# EAGLE library part 610*20243021 (library power_distribution)
20-Pin Bottom Entry Connector from Würth Elektronik
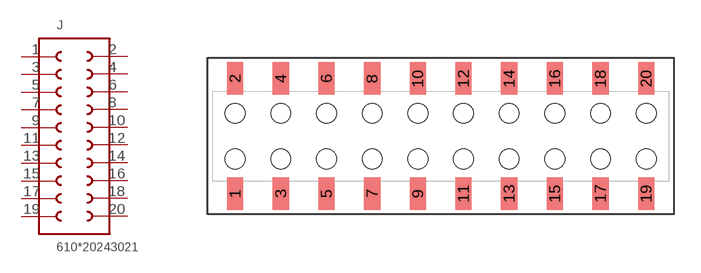
[diagram p3: symbol with the pads of 610X20243021; footprint 610X20243021]

Designator prefix J

## 61020243021, 610020243021 (MF: Würth Elektronik; MPN: 610020243021), 610320243021 (MF: Würth Elektronik; MPN: 610320243021)  [610X20243021]
1  20  pas
2  1  pas
3  19  pas
4  2  pas
5  18  pas
6  3  pas
7  17  pas
8  4  pas
9  16  pas
10  5  pas
11  15  pas
12  6  pas
13  14  pas
14  7  pas
15  13  pas
16  8  pas
17  12  pas
18  9  pas
19  11  pas
20  10  pas

## Footprint 610X20243021 (pad centres in mm)
WR-PHD 2.54mm SMT Dual Socket Header Bottom Entry, 20 Pins
smd 0.9 x 1.8: 1 -11.43,-3.2; 2 -11.43,3.2; 3 -8.89,-3.2; 4 -8.89,3.2; 5 -6.35,-3.2; 6 -6.35,3.2; 7 -3.81,-3.2; 8 -3.81,3.2; 9 -1.27,-3.2; 10 -1.27,3.2; 11 1.27,-3.2; 12 1.27,3.2; 13 3.81,-3.2; 14 3.81,3.2; 15 6.35,-3.2; 16 6.35,3.2; 17 8.89,-3.2; 18 8.89,3.2; 19 11.43,-3.2; 20 11.43,3.2
hole 1.1 at -11.43,1.27
hole 1.1 at -8.89,1.27
hole 1.1 at -8.89,-1.27
hole 1.1 at -11.43,-1.27
hole 1.1 at -6.35,1.27
hole 1.1 at -6.35,-1.27
hole 1.1 at -3.81,1.27
hole 1.1 at -3.81,-1.27
hole 1.1 at -1.27,-1.27
hole 1.1 at -1.27,1.27
hole 1.1 at 1.27,1.27
hole 1.1 at 1.27,-1.27
hole 1.1 at 3.81,-1.27
hole 1.1 at 3.81,1.27
hole 1.1 at 6.35,1.27
hole 1.1 at 6.35,-1.27
hole 1.1 at 8.89,1.27
hole 1.1 at 8.89,-1.27
hole 1.1 at 11.43,1.27
hole 1.1 at 11.43,-1.27